# Altium integrated library Altium_WRIS-PSMC (rev22a).IntLib: 4 symbols
Pins are listed as number, name and electrical type; pins without a type are passive.

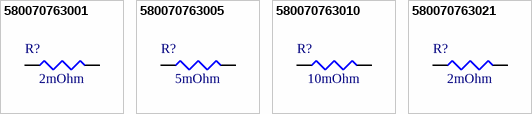
[diagram p0: symbols 580070763001 to 580070763021]

## 580070763001
designator R?, comment 2mOhm
WRIS-PSMC SMT Metal Plate Resistor, size 2512, 2mOhm, 2W; Manufacturer: Wurth Elektronik; Manufacturer Part Number: 580070763001; Rated Current: 31.62A; Temperature Coefficient of Resistance: +/-100ppm/°C; Technical Reference: MC2512R002F201KAATE0000; Resistance Tolerance: 1%; ComponentLink1Description: Manufacturer Link; ComponentLink1URL: http://www.we-online.de; ComponentLink2Description: Datasheet; ComponentLink2URL: https://www.we-online.com/catalog/datasheet/580070763001.pdf; Rated Power: 2W; Resistance: 2mOhm; Mounting Technology: SMT; Height: 0.58mm; Packaging: Tape and Reel; Size: 2512; Length: 6.3mm; Width: 3.1mm; Operating Temperature max.: 125C; Operating Temperature min.: -40C
footprint WRIS-PSMC_2512_L6.3W3.1H0.58
pins: 1, 2

## 580070763005
designator R?, comment 5mOhm
WRIS-PSMC SMT Metal Plate Resistor, size 2512, 5mOhm, 2W; Manufacturer: Wurth Elektronik; Manufacturer Part Number: 580070763005; Rated Current: 20A; Temperature Coefficient of Resistance: +/-100ppm/°C; Technical Reference: MC2512R005F201KAATE0000; Resistance Tolerance: 1%; ComponentLink1Description: Manufacturer Link; ComponentLink1URL: http://www.we-online.de; ComponentLink2Description: Datasheet; ComponentLink2URL: https://www.we-online.com/catalog/datasheet/580070763005.pdf; Rated Power: 2W; Resistance: 5mOhm; Mounting Technology: SMT; Height: 0.51mm; Packaging: Tape and Reel; Size: 2512; Length: 6.3mm; Width: 3.1mm; Operating Temperature max.: 155C; Operating Temperature min.: -55C
footprint WRIS-PSMC_2512_L6.3W3.1H0.51
pins: 1, 2

## 580070763010
designator R?, comment 10mOhm
WRIS-PSMC SMT Metal Plate Resistor, size 2512, 10mOhm, 2W; Manufacturer: Wurth Elektronik; Manufacturer Part Number: 580070763010; Rated Current: 14.14A; Temperature Coefficient of Resistance: +/-100ppm/°C; Technical Reference: MC2512R010F201KAATE0000; Resistance Tolerance: 1%; ComponentLink1Description: Manufacturer Link; ComponentLink1URL: http://www.we-online.de; ComponentLink2Description: Datasheet; ComponentLink2URL: https://www.we-online.com/catalog/datasheet/580070763010.pdf; Rated Power: 2W; Resistance: 10mOhm; Mounting Technology: SMT; Height: 0.35mm; Packaging: Tape and Reel; Size: 2512; Length: 6.3mm; Width: 3.1mm; Operating Temperature max.: 155C; Operating Temperature min.: -55C
footprint WRIS-PSMC_2512_L6.3W3.1H0.35
pins: 1, 2

## 580070763021
designator R?, comment 2mOhm
WRIS-PSMC SMT Metal Plate Resistor, size 2512, 2mOhm, 2W; Manufacturer: Wurth Elektronik; Manufacturer Part Number: 580070763021; Rated Current: 31.62A; Temperature Coefficient of Resistance: +/-100ppm/°C; Technical Reference: MC2512R002J201KAATE0000; Resistance Tolerance: 5%; ComponentLink1Description: Manufacturer Link; ComponentLink1URL: http://www.we-online.de; ComponentLink2Description: Datasheet; ComponentLink2URL: https://www.we-online.com/catalog/datasheet/580070763021.pdf; Rated Power: 2W; Resistance: 2mOhm; Mounting Technology: SMT; Height: 0.58mm; Packaging: Tape and Reel; Size: 2512; Length: 6.3mm; Width: 3.1mm; Operating Temperature max.: 155C; Operating Temperature min.: -55C
footprint WRIS-PSMC_2512_L6.3W3.1H0.58
pins: 1, 2